# Altium footprint library PcbLib2.PcbLib: 1 footprints
Each footprint in its own frame and in the unit in brackets; x right, y up, seen from the top. Pads: shape width x height; smd on the part's side, far side on the other; paste and mask are expansions set on the pad; w line width, h text height; cw(c..) or ccw(c..) is an arc to the next point about the centre after c.
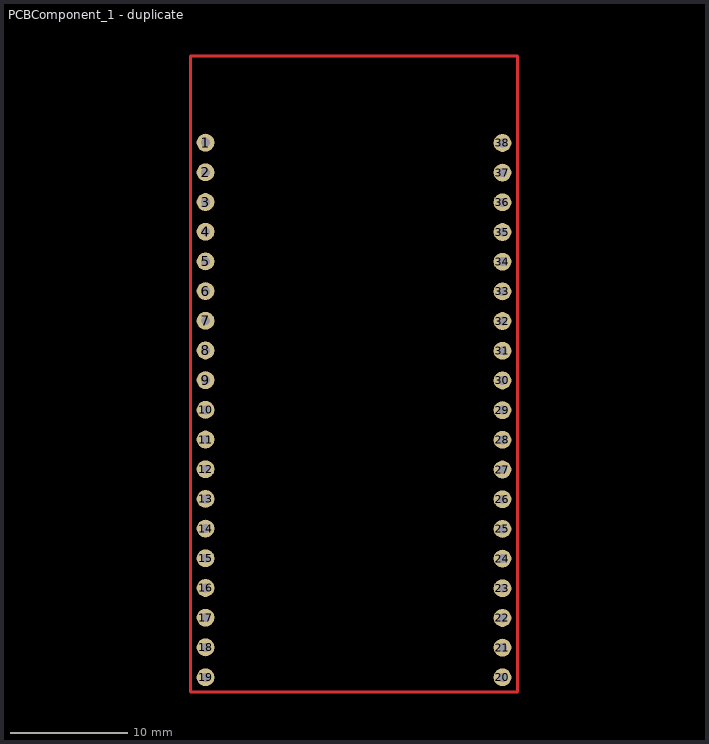
[diagram p0: the footprint, top view; thin cyan lines are the x and y axes]

## PCBComponent_1 - duplicate [mil]
pads (38):
  round 60 hole 30: 1(-4000,49626) 2(-4000,49526) 3(-4000,49426) 4(-4000,49326) 5(-4000,49226) 6(-4000,49126) 7(-4000,49026) 8(-4000,48926) 9(-4000,48826) 10(-4000,48726) 11(-4000,48626) 12(-4000,48526) 13(-4000,48426) 14(-4000,48326) 15(-4000,48226) 16(-4000,48126) 17(-4000,48026) 18(-4000,47926) 19(-4000,47825) 20(-3000,47825) 21(-3000,47925) 22(-3000,48025) 23(-3000,48125) 24(-3000,48225) 25(-3000,48325) 26(-3000,48425) 27(-3000,48525) 28(-3000,48625) 29(-3000,48725) 30(-3000,48825) 31(-3000,48925) 32(-3000,49025) 33(-3000,49125) 34(-3000,49225) 35(-3000,49325) 36(-3000,49425) 37(-3000,49525) 38(-3000,49625)
Top Layer:
  lines w10: -4050,47775 -2950,47775 -2950,49918.46 -4050,49918.46 -4050,47775
3D body "ESP32-DEVKITC-32D.step": height 163.89, standoff -335.72, extent -4059.84,47582.08 -2959.84,49751.38
3D body "19-Pin Header - Female - 2.54mm.step": height 197.35, standoff -117.61, extent -3049.21,47780.32 -2950.79,49700
3D body "19-Pin Header - Female - 2.54mm.step": height 197.35, standoff -117.61, extent -4048.42,47780.32 -3950,49700